# EAGLE library part C6 (library con-ninigi-3.96)
NINIGI
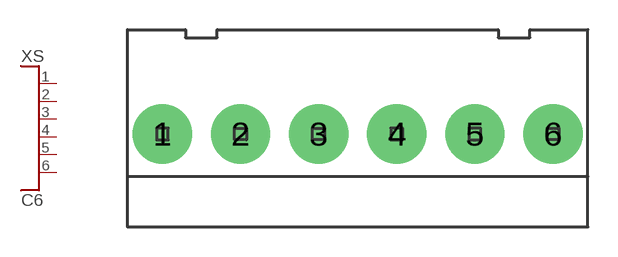
[diagram p0: symbol with the pads of NINIGI6C; footprint NINIGI6C]

Designator prefix XS

## C6  [NINIGI6C]
1  P$1
2  P$2
3  P$3
4  P$4
5  P$5
6  P$6

## Footprint NINIGI6C (pad centres in mm)
drill 1.6 pad 3: 1 -9.9,0; 2 -5.94,0; 3 -1.98,0; 4 1.98,0; 5 5.94,0; 6 9.9,0